# Altium schematic symbol library Cap 10uf.SCHLIB: 1 symbol
Pins are listed as number, name and electrical type; pins without a type are passive.

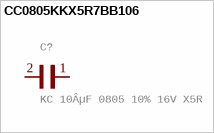
[diagram p0: symbol CC0805KKX5R7BB106]

## CC0805KKX5R7BB106
designator C?, comment KC 10ÂµF 0805 10% 16V X5R
GateName_1: G$1; SymbolName_1: CC0805KKX5R7BB106; MF: Yageo; Description: 10µF ±10% 16V Ceramic Capacitor X5R 0805 (2012 Metric); LibraryName: Cap 10uf; DeviceSetName: CC0805KKX5R7BB106; Package: CAPC2012X70; Package: 0805 Yageo; Digi-Key_Part_Number: 311-1865-1-ND; MP: CC0805KKX5R7BB106
footprint CAPC2012X70
pins: 1, 2